# EAGLE library part STP08DP05 (library LisaLib)
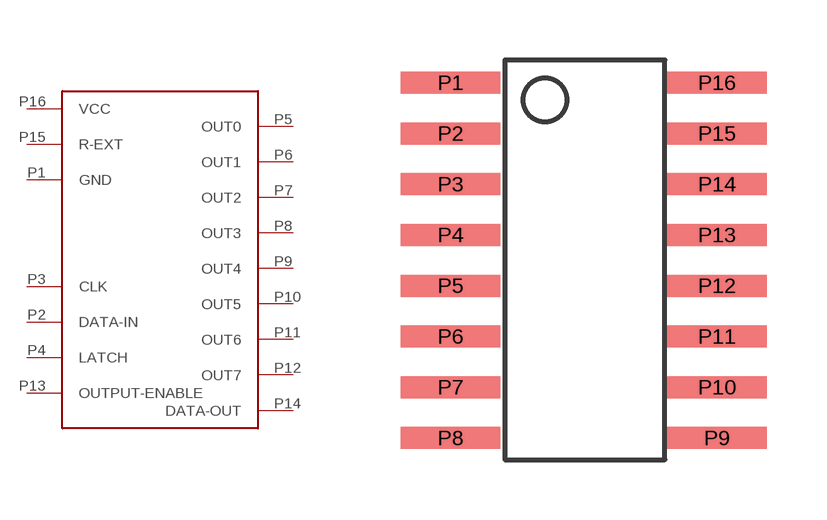
[diagram p0: symbol with the pads of HTSSOP16; footprint HTSSOP16]

Designator prefix -

## STP08DP05  [HTSSOP16]
P1  GND
P2  DATA-IN
P3  CLK
P4  LATCH
P5  OUT0
P6  OUT1
P7  OUT2
P8  OUT3
P9  OUT4
P10  OUT5
P11  OUT6
P12  OUT7
P13  OUTPUT-ENABLE
P14  DATA-OUT
P15  R-EXT
P16  VCC

## Footprint HTSSOP16 (pad centres in mm)
smd 2.5 x 0.55: P1 -3.36,4.43; P2 -3.36,3.16; P3 -3.36,1.89; P4 -3.36,0.62; P5 -3.36,-0.65; P6 -3.36,-1.92; P7 -3.36,-3.19; P8 -3.36,-4.46; P9 3.3,-4.46; P10 3.3,-3.19; P11 3.3,-1.92; P12 3.3,-0.65; P13 3.3,0.62; P14 3.3,1.89; P15 3.3,3.16; P16 3.3,4.43